# Altium schematic symbol library InterfaceICs.SchLib: 1 symbol
Pins are listed as number, name and electrical type; pins without a type are passive.

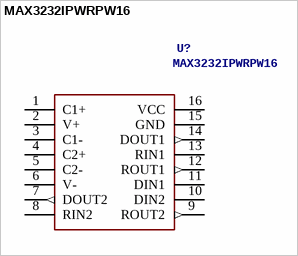
[diagram p0: symbol MAX3232IPWRPW16]

## MAX3232IPWRPW16
designator U?
Transceiver 3.3~5V 250Kbps; Manufacturer: Texas Instruments; Value: 3V~5.5V transceiver; SupplierNumber: 296-13100-2-ND; PartNumber: MAX3232IPWR; SuppliersPartNumber: C113205; Link: https://jlcpcb.com/partdetail/TexasInstruments-MAX3232IPWR/C113205; Package: TSSOP-16
footprint INTERFACE_TSSOP-16
pins: 1 C1+, 2 V+ (power), 3 C1-, 4 C2+, 5 C2-, 6 V- (power), 7 DOUT2 (out), 8 RIN2, 9 ROUT2 (out), 10 DIN2, 11 DIN1, 12 ROUT1 (out), 13 RIN1, 14 DOUT1 (out), 15 GND (power), 16 VCC (power)